# Altium footprint library VESC_DEVICE.PcbLib: 39 footprints (part 3 of 3)
Each footprint in its own frame and in the unit in brackets; x right, y up, seen from the top. Pads: shape width x height; smd on the part's side, far side on the other; paste and mask are expansions set on the pad; w line width, h text height; cw(c..) or ccw(c..) is an arc to the next point about the centre after c.
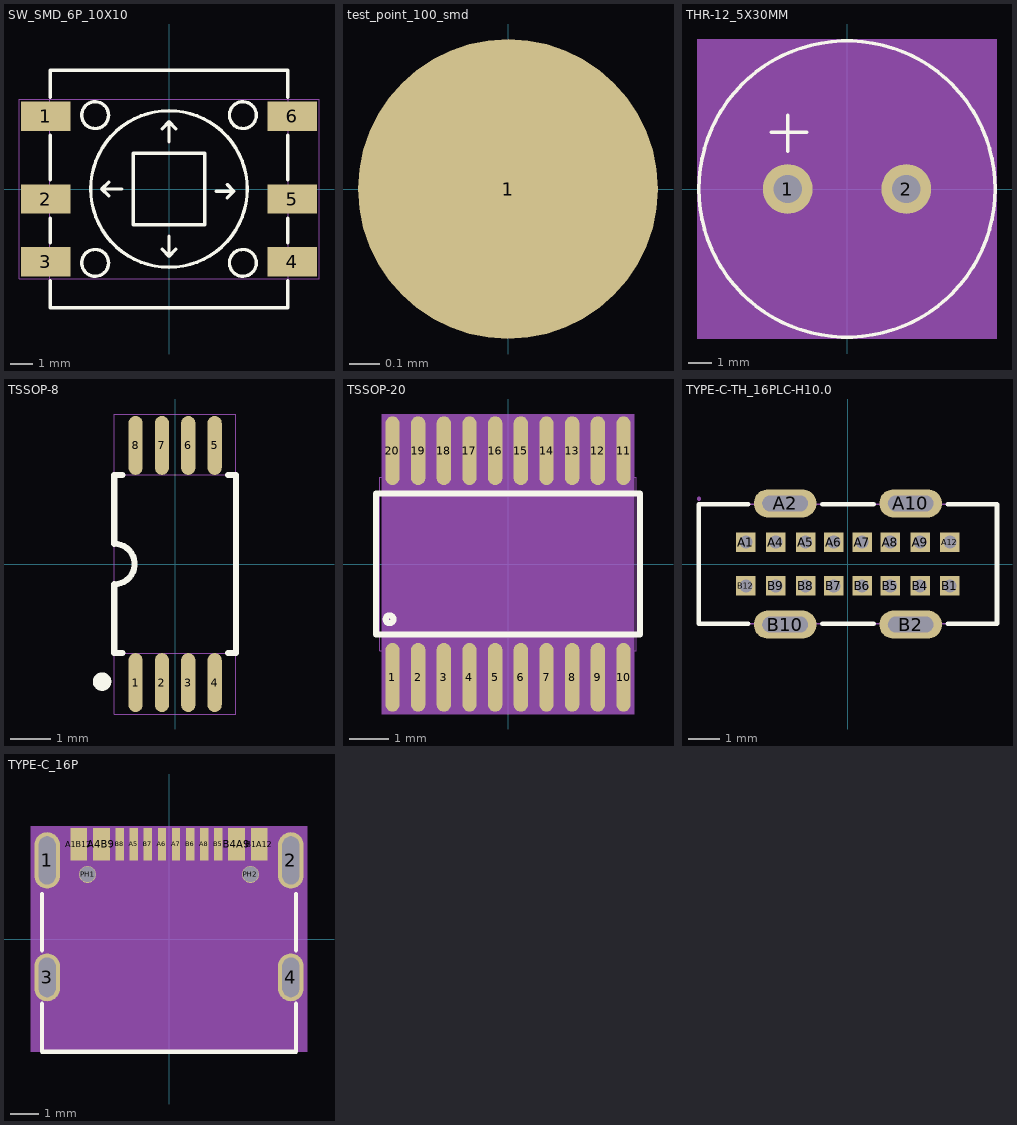
[diagram p2: the footprints below, top view; thin cyan lines are the x and y axes]

## SW_SMD_6P_10X10 [mm] "SW_SMD_6P_10X10"
pads (6):
  rect 2.2x1.3 smd: 1(-5.5,3.25) 2(-5.5,-0.45) 3(-5.5,-3.25) 4(5.5,-3.25) 5(5.5,-0.45) 6(5.5,3.25)
Top Overlay:
  circle w0.152: c0,0 r3.5
  circle w0.152: c3.3,-3.3 r0.6
  circle w0.152: c-3.3,-3.3 r0.6
  circle w0.152: c-3.3,3.3 r0.6
  circle w0.152: c3.3,3.3 r0.6
  lines w0.152: -5.3,-4.1 -5.3,-5.3 5.3,-5.3 5.3,-4.1 ; -5.3,-2.4 -5.3,-1.3 ; -5.3,0.4 -5.3,2.4 ; -5.3,4.1 -5.3,5.3 5.3,5.3 5.3,4.1 ; -2.7,-0.3 -3,0 ; -2.7,0.3 -3,0 ; -2.1,0 -3,0 ; -0.3,-2.7 0,-3 ; -0.3,2.7 0,3 ; 0,-2.1 0,-3 ; 0,2.1 0,3 ; 0.3,-2.7 0,-3 ; 0.3,2.7 0,3 ; 2.1,-0.1 2.9,-0.1 ; 2.6,-0.4 2.9,-0.1 ; 2.6,0.2 2.9,-0.1 ; 5.3,-2.4 5.3,-1.3 ; 5.3,0.4 5.3,2.4 ; -1.6,-1.6 1.6,-1.6 1.6,1.6 -1.6,1.6 -1.6,-1.6
Top 3D Body:
  lines w0.025: -6.7,-4 -6.7,4 6.7,4 6.7,-4 -6.7,-4
Mechanical 9:
  text "4" at 3.722,-3.25 h0.64
  text "1" at -7.278,3.25 h0.64
  text "2" at -7.278,-0.45 h0.64
  text "3" at -7.278,-3.25 h0.64
  text "5" at 3.722,-0.45 h0.64
  text "6" at 3.722,3.25 h0.64
Top Assembly:
  lines w0.01: -5.334,-5.334 -5.334,5.334 5.334,5.334 5.334,-5.334 -5.334,-5.334

## test_point_100_smd [mm] "TEST_POINT_100_SMD"
pads (1):
  round 1 smd paste-100 mask+0.05: 1(0,0)
Mechanical 14:
  circle w0.01: c0,0 r0.457
  text "1" at -0.125,-0.325 h1
  text "'.Designator'" at 3.175,0.3 h0.75

## THR-12_5X30MM [mm] "THR-12_5X30MM"
pads (2):
  round 2.1 hole 1.2: 1(-2.5,0) 2(2.5,0)
Top Overlay:
  circle w0.15: c0,0 r6.25
  lines w0.15: -3.2,2.4 -1.7,2.4 ; -2.5,1.6 -2.5,3.1
Top 3D Body:
  circle w0.025: c0,0 r6.25
  region: -6.325,-6.325 6.325,-6.325 6.325,6.325 -6.325,6.325
Bottom 3D Body:
  text "2" at 1.23,0.508 h0.64
  text "1" at -3.77,0.508 h0.64
Mechanical 9:
  circle w0.025: c0,0 r6.25
3D body: height 3.81, standoff 0, extent -6.325,-6.325 6.325,6.325

## TSSOP-8 [mm] "TSSOP-8"
pads (8):
  oval 0.353x1.453 smd: 1(-0.975,-2.926) 2(-0.325,-2.926) 3(0.325,-2.926) 4(0.975,-2.926) 5(0.975,2.926) 6(0.325,2.926) 7(-0.325,2.926) 8(-0.975,2.926)
Top Overlay:
  circle w0.254: c-1.802,-2.901 r0.1
  lines w0.15: -1.301,-2.2 -1.501,-2.2 -1.501,-0.5 ccw(c-1.5,0) -1.501,0.5 -1.501,2.2 -1.301,2.2 ; 1.3,-2.2 1.501,-2.2 1.501,2.2 1.3,2.2
Top 3D Body:
  lines w0.025: -1.501,-3.701 1.501,-3.701 1.501,3.701 -1.501,3.701 -1.501,-3.701
Mechanical 9:
  text "5" at 0.691,2.601 h0.64
  text "6" at -0.008,2.601 h0.64
  text "8" at -1.308,2.601 h0.64
  text "2" at -0.607,-3.2 h0.64
  text "7" at -0.709,2.601 h0.64
  text "4" at 0.691,-3.2 h0.64
  text "3" at -0.008,-3.2 h0.64
  text "1" at -1.308,-3.2 h0.64
Top Assembly:
  dashed: -1.596,-2.9 -1.612,-2.822 -1.656,-2.756 -1.722,-2.712 -1.8,-2.696 -1.878,-2.712 -1.9,-2.727 -1.944,-2.756 -1.988,-2.822 -2.004,-2.9 -1.988,-2.978 -1.944,-3.044 -1.9,-3.073 -1.878,-3.088 -1.8,-3.104 -1.722,-3.088 -1.656,-3.044 -1.612,-2.978
  lines w0.025: -1.501,-2.2 1.501,-2.2 1.501,2.2 -1.501,2.2 -1.501,-2.2
3D body "INA240A1PWR.stp": height 1.2, standoff 0, extent -1.5,-3.2 1.5,3.2

## TSSOP-20 [mil] "TSSOP-20"
pads (20):
  oval 14.29x68.58 smd: 1(-115.2,-113) 2(-89.6,-113) 3(-64,-113) 4(-38.4,-113) 5(-12.8,-113) 6(12.8,-113) 7(38.4,-113) 8(64,-113) 9(89.6,-113) 10(115.2,-113) 11(115.2,113) 12(89.6,113) 13(64,113) 14(38.4,113) 15(12.8,113) 16(-12.8,113) 17(-38.4,113) 18(-64,113) 19(-89.6,113) 20(-115.2,113)
Top Overlay:
  circle w6: c-118.11,-55.12 r3.91
  lines w6: -131.5,-70.1 131.5,-70.1 131.5,70.1 -131.5,70.1 -131.5,-70.1
Top 3D Body:
  region: -126,-149.6 126,-149.6 126,149.6 -126,149.6
Mechanical 9:
  text "17" at 8.5,66.9 h25
  text "14" at 83.3,66.9 h25
  text "20" at -70.2,66.9 h25
  text "9" at 110.6,-74.8 h25
  text "10" at 162,-74.8 h25
  text "11" at 162,66.9 h25
  text "7" at 63.3,-74.8 h25
  text "15" at 59.7,66.9 h25
  text "18" at -19.1,66.9 h25
  text "8" at 86.9,-74.8 h25
  text "12" at 134.5,66.9 h25
  text "4" at -15.4,-74.8 h25
  text "1" at -94.2,-74.8 h25
  text "5" at 8.2,-74.8 h25
  text "2" at -66.6,-74.8 h25
  text "6" at 35.7,-74.8 h25
  text "3" at -43,-74.8 h25
  text "19" at -42.7,66.9 h25
  text "16" at 32.1,66.9 h25
  text "13" at 110.9,66.9 h25
Top Assembly:
  circle w1: c-118.11,-55.12 r5.58
  lines w1: -128,-86.6 128,-86.6 128,86.6 -128,86.6 -128,-86.6
3D body "fd6288t.stp": height 47.24, standoff 0, extent -127.95,-125.98 127.95,125.98

## TYPE-C-TH_16PLC-H10.0 [mm]
pads (20):
  rect 0.62x0.62 hole 0.42 paste-2539.97 mask+0.05: A1(-3.25,0.7) A4(-2.3,0.7) A5(-1.35,0.7) A6(-0.45,0.7) A7(0.45,0.7) A8(1.35,0.7) A9(2.3,0.7) A12(3.25,0.7) B1(3.25,-0.7) B4(2.3,-0.7) B5(1.35,-0.7) B6(0.45,-0.7) B7(-0.45,-0.7) B8(-1.35,-0.7) B9(-2.3,-0.7) B12(-3.25,-0.7)
  oval 2x0.9 hole 0.5 slot 1.45 at 0 deg paste-2539.97 mask+0.05: A2(-2,1.93) A10(2,1.93) B2(2,-1.93) B10(-2,-1.93)
Top Overlay:
  lines w0.15: -3.178,-1.9 -4.75,-1.9 -4.75,1.9 -3.178,1.9 ; -0.822,-1.9 0.822,-1.9 ; -0.822,1.9 0.822,1.9 ; 3.178,-1.9 4.75,-1.9 4.75,1.9 3.178,1.9
Mechanical 15:
  region: -3.39,0.84 -3.11,0.84 -3.11,0.56 -3.39,0.56
  region: -2.44,0.84 -2.16,0.84 -2.16,0.56 -2.44,0.56
  region: -1.49,0.84 -1.21,0.84 -1.21,0.56 -1.49,0.56
  region: -0.59,0.84 -0.31,0.84 -0.31,0.56 -0.59,0.56
  region: 0.31,0.84 0.59,0.84 0.59,0.56 0.31,0.56
  region: 1.21,0.84 1.49,0.84 1.49,0.56 1.21,0.56
  region: 2.16,0.84 2.44,0.84 2.44,0.56 2.16,0.56
  region: 3.11,0.84 3.39,0.84 3.39,0.56 3.11,0.56
  region: 3.11,-0.56 3.39,-0.56 3.39,-0.84 3.11,-0.84
  region: 2.16,-0.56 2.44,-0.56 2.44,-0.84 2.16,-0.84
  region: 1.21,-0.56 1.49,-0.56 1.49,-0.84 1.21,-0.84
  region: 0.31,-0.56 0.59,-0.56 0.59,-0.84 0.31,-0.84
  region: -0.59,-0.56 -0.31,-0.56 -0.31,-0.84 -0.59,-0.84
  region: -1.49,-0.56 -1.21,-0.56 -1.21,-0.84 -1.49,-0.84
  region: -2.44,-0.56 -2.16,-0.56 -2.16,-0.84 -2.44,-0.84
  region: -3.39,-0.56 -3.11,-0.56 -3.11,-0.84 -3.39,-0.84
  region: -2.5,2.08 -1.5,2.08 -1.5,1.78 -2.5,1.78
  region: -2.5,-1.78 -1.5,-1.78 -1.5,-2.08 -2.5,-2.08
  region: 1.5,-1.78 2.5,-1.78 2.5,-2.08 1.5,-2.08
  region: 1.5,2.08 2.5,2.08 2.5,1.78 1.5,1.78
  region: -4.69,2.08 -4.69,2.105 -4.725,2.14 -4.775,2.14 -4.81,2.105 -4.81,2.08 -4.81,2.055 -4.775,2.02 -4.725,2.02 -4.69,2.055 -4.69,2.08
  lines w0.051: -4.75,-1.9 4.75,-1.9 4.75,1.9 -4.75,1.9 -4.75,-1.9
3D body "RUYC-U1.step": height 10, standoff -2, extent -4.47,-2.08 4.47,2.08

## TYPE-C_16P [mil] "TYPE-C_16P"
pads (18):
  oval 35.4x78.7 hole 23.6 slot 66.9 at 90 deg: 1(-170.1,109.8) 2(170.1,109.8)
  oval 35.4x66.9 hole 23.6 slot 55.1 at 90 deg: 3(-170.1,-53.6) 4(170.1,-53.6)
  rect 23.6x45.3 smd: A1B12(-126,132.4) A4B9(-94.5,132.4) B1A12(126,132.4) B4A9(94.5,132.4)
  rect 11.8x45.3 smd: A5(-49.2,132.4) A6(-9.8,132.4) A7(9.8,132.4) A8(49.2,132.4) B5(68.9,132.4) B6(29.5,132.4) B7(-29.5,132.4) B8(-68.9,132.4)
  round 23.6 hole 21.7 unplated: PH1(-113.8,90.1) PH2(113.8,90.1)
Top Overlay:
  lines w5.9: -177.2,-90.5 -177.2,-157.5 177.2,-157.5 177.2,-90.5 ; -177.2,-15.7 -177.2,63 ; 177.2,-15.7 177.2,63
Top 3D Body:
  region: -192.9,-157.5 192.9,-157.5 192.9,157.5 -192.9,157.5
Mechanical 9:
  text "A5" at -51.2,177.5 h25
  text "B5" at 66.9,177.5 h25
  text "PH1" at -114.2,97 h25
  text "PH2" at 114.2,97 h25
  text "A8" at 47.2,177.5 h25
  text "B8" at -70.9,177.5 h25
  text "B4A9" at 94.5,197.5 h25
  text "A4B9" at -94.5,197.5 h25
  text "B6" at 27.6,177.5 h25
  text "A6" at -11.8,177.5 h25
  text "B7" at -31.5,177.5 h25
  text "A7" at 7.9,177.5 h25
  text "1" at -169.3,163.6 h25
  text "2" at 173.2,163.6 h25
  text "3" at -169.3,-1.8 h25
  text "4" at 173.2,-5.7 h25
  text "A1B12" at -126,207.5 h25
  text "B1A12" at 126,207.5 h25
Top Assembly:
  lines w1: -176,-155.9 -176,133.5 176,133.5 176,-155.9 -176,-155.9
3D body: height 150, standoff 0, extent -192.9,-157.5 192.9,157.5